# Altium schematic symbol library FPC_4pin_touch.SchLib: 1 symbol
Pins are listed as number, name and electrical type; pins without a type are passive.

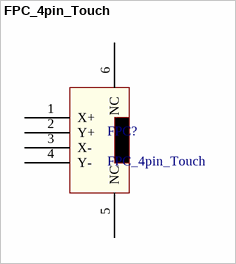
[diagram p0: symbol FPC_4pin_Touch]

## FPC_4pin_Touch
designator FPC?
footprint FPC4
pins: 1 X+, 2 Y+, 3 X-, 4 Y-, 5 NC, 6 NC